# Altium schematic symbol library Connectors-Terminal_Blocks.SchLib: 14 symbols
Pins are listed as number, name and electrical type; pins without a type are passive.

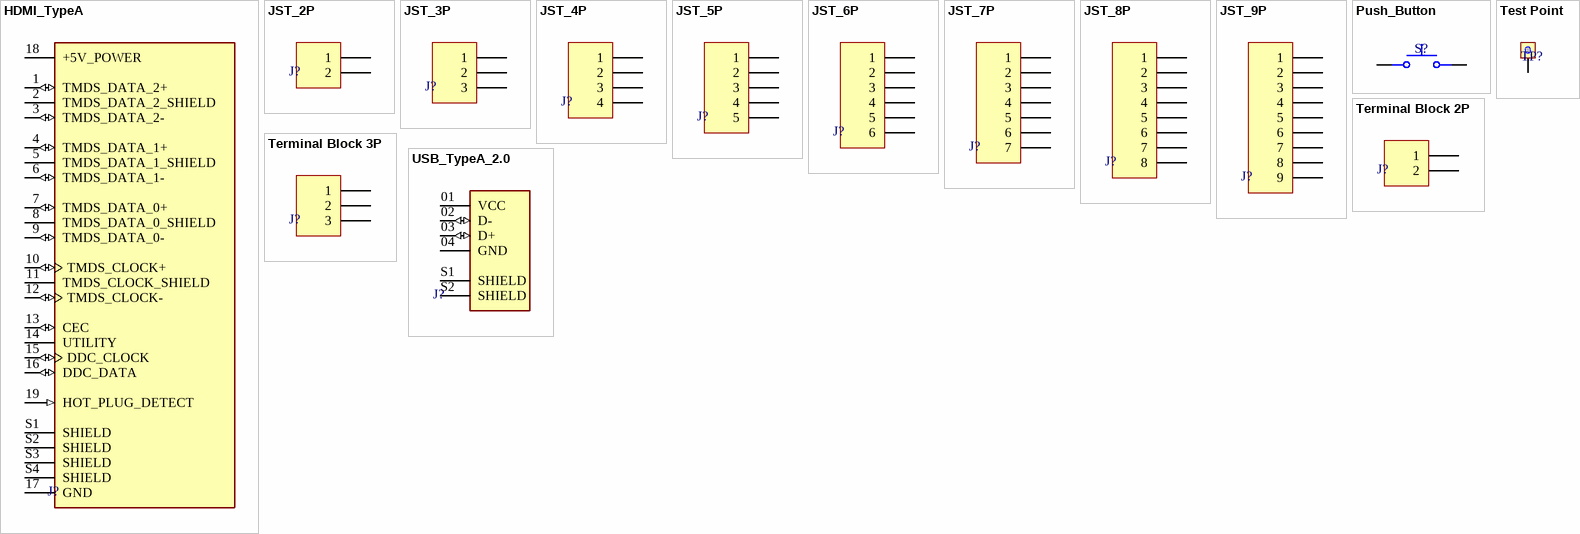
[diagram p0: symbols HDMI_TypeA to USB_TypeA_2.0]

## HDMI_TypeA
designator J?, comment HDMI Type A  (value not drawn)
HDMI, Input Output Connectors, Receptacle, Type A, Right Angle, Surface Mount, 19 Positions.; ComponentLink1Description: New link
footprint HDMI TypeA SMD
pins: 1 TMDS_DATA_2+ (io), 2 TMDS_DATA_2_SHIELD, 3 TMDS_DATA_2- (io), 4 TMDS_DATA_1+ (io), 5 TMDS_DATA_1_SHIELD, 6 TMDS_DATA_1- (io), 7 TMDS_DATA_0+ (io), 8 TMDS_DATA_0_SHIELD, 9 TMDS_DATA_0- (io), 10 TMDS_CLOCK+ (io), 11 TMDS_CLOCK_SHIELD, 12 TMDS_CLOCK- (io), 13 CEC (io), 14 UTILITY, 15 DDC_CLOCK (io), 16 DDC_DATA (io), 17 GND (power), 18 +5V_POWER (power), 19 HOT_PLUG_DETECT (in), S1 SHIELD, S2 SHIELD, S3 SHIELD, S4 SHIELD

## JST_2P
designator J?, comment 2 Pins-2.5mm Pitch Connector  (value not drawn)
ComponentLink1Description: New link; ComponentLink1URL: *
footprint JST_B2B-XH-A
pins: 1, 2

## JST_3P
designator J?, comment 3 Pins-2.5mm Pitch Connector  (value not drawn)
ComponentLink1Description: New link; ComponentLink1URL: *
footprint JST_B3B-XH-A
pins: 1, 2, 3

## JST_4P
designator J?, comment 4 Pins-2.5mm Pitch Connector  (value not drawn)
ComponentLink1Description: New link; ComponentLink1URL: *
footprint JST_B4B-XH-A
pins: 1, 2, 3, 4

## JST_5P
designator J?, comment 5 Pins-2.5mm Pitch Connector  (value not drawn)
ComponentLink1Description: New link; ComponentLink1URL: *
footprint JST_B5B-XH-A
pins: 1, 2, 3, 4, 5

## JST_6P
designator J?, comment 6 Pins-2.5mm Pitch Connector  (value not drawn)
ComponentLink1Description: New link; ComponentLink1URL: *
footprint JST_B6B-XH-A
pins: 1, 2, 3, 4, 5, 6

## JST_7P
designator J?, comment 7 Pins-2.5mm Pitch Connector  (value not drawn)
ComponentLink1Description: New link; ComponentLink1URL: *
footprint JST_B7B-XH-A
pins: 1, 2, 3, 4, 5, 6, 7

## JST_8P
designator J?, comment 8 Pins-2.5mm Pitch Connector  (value not drawn)
ComponentLink1Description: New link; ComponentLink1URL: *
footprint JST_B8B-XH-A
pins: 1, 2, 3, 4, 5, 6, 7, 8

## JST_9P
designator J?, comment 9 Pins-2.5mm Pitch Connector  (value not drawn)
ComponentLink1Description: New link; ComponentLink1URL: *
footprint JST_B9B-XH-A
pins: 1, 2, 3, 4, 5, 6, 7, 8, 9

## Push_Button
designator S?, comment Push Button 4 pin  (value not drawn)
Push Button SMD(6x6mm) 4 pin; ComponentLink1Description: New link
footprint Push_Button(6x6mm)
pins: 1, 2 1, 3, 4 3

## Terminal Block 2P
designator J?, comment 2 Position-5.08mm Pitch Terminal Block  (value not drawn)
ComponentLink1Description: New link; ComponentLink1URL: *
footprint Terminal_Block_2 Pin_5.08mm
pins: 1, 2

## Terminal Block 3P
designator J?, comment 3 Position-5.08mm Pitch Terminal Block  (value not drawn)
ComponentLink1Description: New link; ComponentLink1URL: *
footprint Terminal_block_3 pin_5.08mm
footprint Terminal_Block_3 Pin_10.16mm
pins: 1, 2, 3

## Test Point
designator TP?  (value not drawn)
footprint Test Point
pins: 0

## USB_TypeA_2.0
designator J?, comment USB Type A  (value not drawn)
USB_TypeA_2.0; ComponentLink1Description: New link
footprint USB_TypeA_2.0
pins: 01 VCC (power), 02 D- (io), 03 D+ (io), 04 GND (power), S1 SHIELD, S2 SHIELD